# Altium schematic symbol library protect_tvs_esd_fuse.SchLib: 145 symbols
Pins are listed as number, name and electrical type; pins without a type are passive.

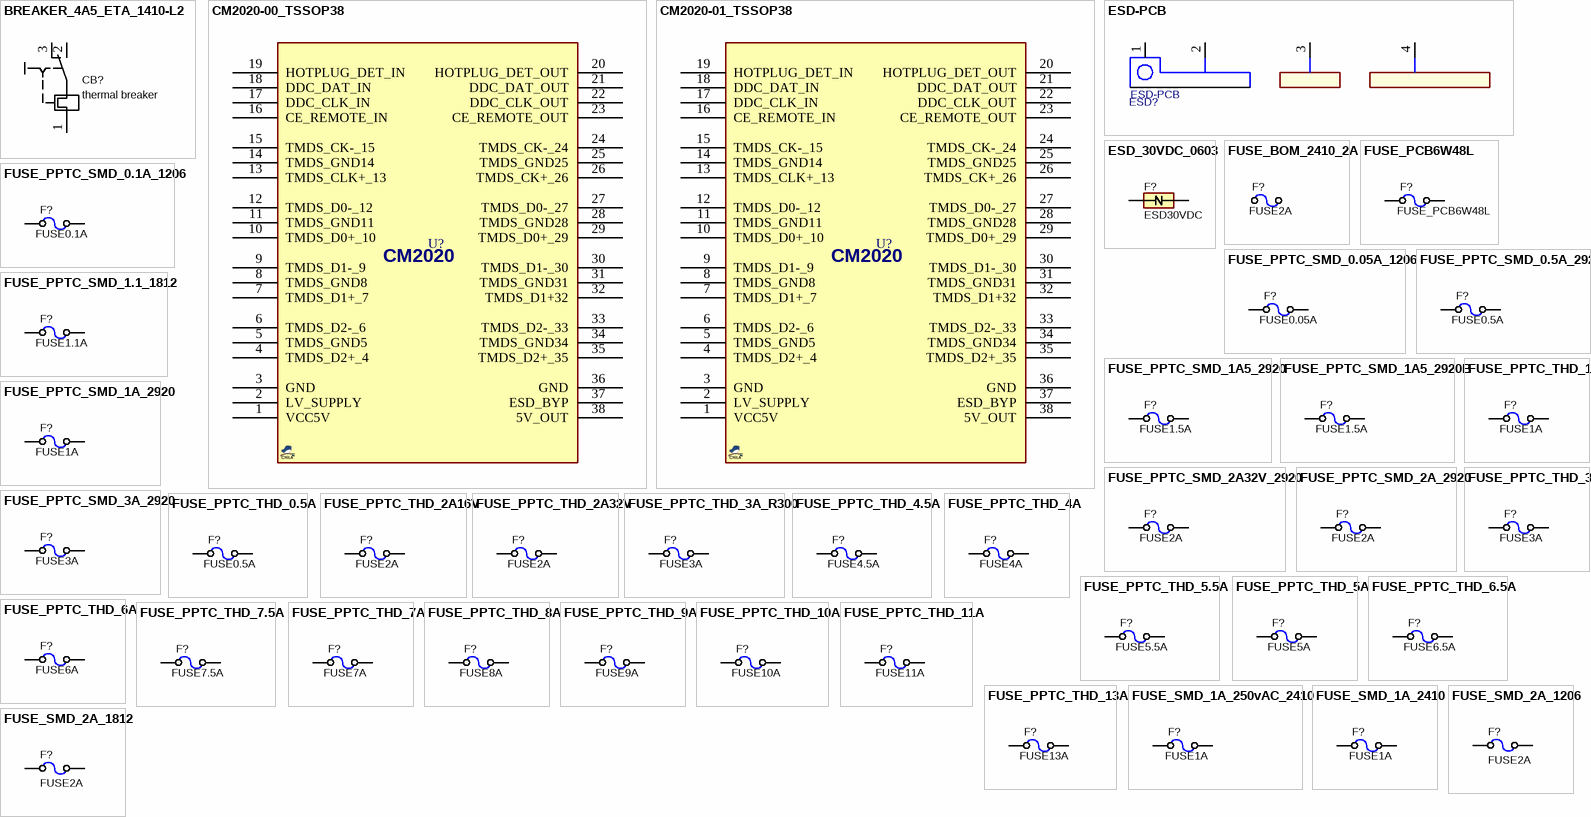
[diagram p0: symbols BREAKER_4A5_ETA_1410-L2 to FUSE_SMD_2A_1812]

## BREAKER_4A5_ETA_1410-L2
designator CB?, comment thermal breaker
Circuit breaker 4.5A PCB mount; MANF: E-T-A; MANF_P#: 1410-L210-L2F1-S02-4.5A; PARAM: 4.5A; 28VDC; 240VAC; VALUE: thermal breaker
footprint BREAKER_1410-L2 (E-T-A Thermal Overcurrent Circuit Breaker 1410-L2)
pins: 1, 2, 3

## CM2020-00_TSSOP38
designator U?, comment CM2020  (value not drawn)
TVS, ESD PROTECT, HDMI, 8kV; MANF: ON; MANF_P#: CM2020-00TR; PARAM2: 8kV ESD Protection; PARAM: -40~85°C; PRICE: 1.4$; VALUE: CM2020; PACKAGE: TSSOP-38
footprint SOG50_38 (38L TSSOP (MAXIM),38Lead, pitch: 0.5mm, 10x4.4x1.2mm)
pins: 1 VCC5V, 2 LV_SUPPLY, 3 GND, 4 TMDS_D2+_4, 5 TMDS_GND5, 6 TMDS_D2-_6, 7 TMDS_D1+_7, 8 TMDS_GND8, 9 TMDS_D1-_9, 10 TMDS_D0+_10, 11 TMDS_GND11, 12 TMDS_D0-_12, 13 TMDS_CLK+_13, 14 TMDS_GND14, 15 TMDS_CK-_15, 16 CE_REMOTE_IN, 17 DDC_CLK_IN, 18 DDC_DAT_IN, 19 HOTPLUG_DET_IN, 20 HOTPLUG_DET_OUT, 21 DDC_DAT_OUT, 22 DDC_CLK_OUT, 23 CE_REMOTE_OUT, 24 TMDS_CK-_24, 25 TMDS_GND25, 26 TMDS_CK+_26, 27 TMDS_D0-_27, 28 TMDS_GND28, 29 TMDS_D0+_29, 30 TMDS_D1-_30, 31 TMDS_GND31, 32 TMDS_D1+32, 33 TMDS_D2-_33, 34 TMDS_GND34, 35 TMDS_D2+_35, 36 GND, 37 ESD_BYP, 38 5V_OUT

## CM2020-01_TSSOP38
designator U?, comment CM2020  (value not drawn)
TVS, ESD PROTECT, HDMI, ±8kV; MANF: ON; MANF_P#: CM2020-01TR; PARAM2: ±8kV ESD Protection; PARAM: -40~85°C; PRICE: 1.4$; VALUE: CM2020; PACKAGE: TSSOP-38
footprint SOG50_38 (38L TSSOP (MAXIM),38Lead, pitch: 0.5mm, 10x4.4x1.2mm)
pins: 1 VCC5V, 2 LV_SUPPLY, 3 GND, 4 TMDS_D2+_4, 5 TMDS_GND5, 6 TMDS_D2-_6, 7 TMDS_D1+_7, 8 TMDS_GND8, 9 TMDS_D1-_9, 10 TMDS_D0+_10, 11 TMDS_GND11, 12 TMDS_D0-_12, 13 TMDS_CLK+_13, 14 TMDS_GND14, 15 TMDS_CK-_15, 16 CE_REMOTE_IN, 17 DDC_CLK_IN, 18 DDC_DAT_IN, 19 HOTPLUG_DET_IN, 20 HOTPLUG_DET_OUT, 21 DDC_DAT_OUT, 22 DDC_CLK_OUT, 23 CE_REMOTE_OUT, 24 TMDS_CK-_24, 25 TMDS_GND25, 26 TMDS_CK+_26, 27 TMDS_D0-_27, 28 TMDS_GND28, 29 TMDS_D0+_29, 30 TMDS_D1-_30, 31 TMDS_GND31, 32 TMDS_D1+32, 33 TMDS_D2-_33, 34 TMDS_GND34, 35 TMDS_D2+_35, 36 GND, 37 ESD_BYP, 38 5V_OUT

## ESD-PCB
designator ESD?
ESD, PCB; ASSEMBLY: DNP; VALUE: ESD-PCB
footprint ESD3X125
pins: 1, 2, 3, 4

## ESD_30VDC_0603
designator F?, comment ESD30VDC
ESD Suppressor 30VDC 0603 SMD; MANF: Cooper Bussmann; MANF_P#: 603ESDA2-TR2; PARAM2: WORK30V; PARAM: CLAMP60V; VALUE: ESD30VDC; PACKAGE: 0603
footprint ESD0603 (Chip ESD suppressor, Body 1.6x0.8mm, 0603)
pins: 1, 2

## FUSE_BOM_2410_2A
designator F?, comment FUSE2A
Fuse, Cermaic Nano; PARAM: 2A; 250VDC; fast acting; MANF: Reomax; MANF_P#: JFC2410-1200FS; PARAM2: 0.036Ohm DC Cold Resistance; PRICE: 260toman@Javan; PACKAGE: 2410; VALUE: FUSE2A
footprint FUSE_BOM (Fuse only for BOM)

## FUSE_PCB6W48L
designator F?  (net tie, no BOM)
PCB Fuse, 0.15mm wide, accordion shape, 48mm length, fuse time depends on substrate and current; MANF: Chilaboard; PRICE: 260toman@Javan; PACKAGE: 2410; VALUE: FUSE_PCB6W48L
footprint FUSE_PCB6W48L (PCB Fuse, 0.15mm wide, accordion shape, 48mm length, fuse time depends on substrate and current)
pins: 1, 2

## FUSE_PPTC_SMD_0.1A_1206
designator F?, comment FUSE0.1A
Fuse, PPTC, 0.1A, 60v, 1.6Ohm, 1206; PARAM: 0.1A, 0.25A Itrip, 100A max, -40~85oC; MANF_P#: JK-nSMD010/60V; PARAM2: 60VDC, 1.6Ohm; DESC: Resettable Fuse; PRICE: 0.03$; PACKAGE: 1206; VALUE: FUSE0.1A
footprint F1206 (FUSE, 1206, 3.2x1.6mm)
pins: 1, 2

## FUSE_PPTC_SMD_0.05A_1206
designator F?, comment FUSE0.05A
Fuse, PPTC, 0.05A, 60v, 1.6Ohm, 1206; PARAM: 0.1A, 0.25A Itrip, 100A max, -40~85oC; MANF_P#: JK-nSMD005/60V; PARAM2: 60VDC, 1.6Ohm; DESC: Resettable Fuse; PRICE: 0.03$; PACKAGE: 1206; VALUE: FUSE0.05A
footprint F1206 (FUSE, 1206, 3.2x1.6mm)
pins: 1, 2

## FUSE_PPTC_SMD_0.5A_2920
designator F?, comment FUSE0.5A
Fuse, PPTC, 0.5A, 60v, 1.4Ohm, 2920; PARAM: 0.5A, 1A Itrip, 100A max, -40~85oC; MANF: Bel Fuse; MANF_P#: 0ZCF0200AF2C; PARAM2: 60VDC, 1.4Ohm; DESC: Resettable Fuse; PRICE: 0.23$; PACKAGE: 2920; VALUE: FUSE0.5A
footprint F2920 (FUSE, 7.7x5.3mm)
pins: 1, 2

## FUSE_PPTC_SMD_1.1_1812
designator F?, comment FUSE1.1A
Fuse, PPTC, 1.1A, 24v, 0.18Ohm, 1812; PARAM: 1.1A, 2.2A Itrip, 20A max, -40~85oC; MANF: Bourns; MANF_P#: MF-MSMF110/24X-2; PARAM2: 24VDC, 0.18Ohm; DESC: Resettable Fuse; PRICE: https://lionelectronic.ir/products/1874-MF-MSMF110-24X-2; PACKAGE: 1812; VALUE: FUSE1.1A
footprint F1812 (FUSE, 4.50x3.20mm)
pins: 1, 2

## FUSE_PPTC_SMD_1A5_2920
designator F?, comment FUSE1.5A
Fuse, PPTC, 1.5A, 33v, 230mOhm, 2920; PARAM: 1.5A, 3A Itrip, 100A max, -40~85oC; MANF: Bel Fuse; MANF_P#: 0ZCF0200AF2C; PARAM2: 33VDC, 230mOhm; DESC: Resettable Fuse; PRICE: 0.23$; PACKAGE: 2920; VALUE: FUSE1.5A
footprint F2920 (FUSE, 7.7x5.3mm)
pins: 1, 2

## FUSE_PPTC_SMD_1A5_2920B
designator F?, comment FUSE1.5A
Fuse, PPTC, 1.5A, 33v, 230mOhm, 2920; PARAM: 1.5A, 3A Itrip, 40A max, -40~85oC; MANF: Bourns; MANF_P#: MF-SM150/33-2; PARAM2: 33VDC, 230mOhm; DESC: Resettable Fuse; PRICE: 0.5$; PACKAGE: 2920; VALUE: FUSE1.5A
footprint F2920 (FUSE, 7.7x5.3mm)
pins: 1, 2

## FUSE_PPTC_SMD_1A_2920
designator F?, comment FUSE1A
Fuse, PPTC, 1A, 60v, 410mOhm, 2920; PARAM: 1A, 2A Itrip, 100A max, -40~85oC; MANF: Bel Fuse; MANF_P#: 0ZCF0100AF2A; PARAM2: 60VDC, 410mOhm; DESC: Resettable Fuse; PRICE: 0.4$; PACKAGE: 2920; VALUE: FUSE1A
footprint F2920 (FUSE, 7.7x5.3mm)
pins: 1, 2

## FUSE_PPTC_SMD_2A32V_2920
designator F?, comment FUSE2A
Fuse, PPTC, THD; PARAM: 2A, 3.8A Itrip, 50A max, -40~85oC; MANF: BOURNS; MANF_P#: MF-RHT200/32; PARAM2: 32VDC, 110mOhm; DESC: Resettable Fuse; PRICE: 0.23$; PACKAGE: 2920; VALUE: FUSE2A
footprint F2920 (FUSE, 7.7x5.3mm)
pins: 1, 2

## FUSE_PPTC_SMD_2A_2920
designator F?, comment FUSE2A
Fuse, PPTC, 2A, 24v, 120mOhm, 2920; PARAM: 2A, 4A Itrip, 100A max, -40~85oC; MANF: Bel Fuse; MANF_P#: 0ZCF0200AF2C; PARAM2: 24VDC, 120mOhm; DESC: Resettable Fuse; PRICE: 0.23$; PACKAGE: 2920; VALUE: FUSE2A
footprint F2920 (FUSE, 7.7x5.3mm)
pins: 1, 2

## FUSE_PPTC_SMD_3A_2920
designator F?, comment FUSE3A
Fuse, PPTC, 3A, 24v, 48mOhm, 2920; PARAM: 3A, 5.2A Itrip, 100A max, -40~85oC; MANF: Bel Fuse; MANF_P#: 0ZCF0300BF2C; PARAM2: 24VDC, 48mOhm; DESC: Resettable Fuse; PRICE: 0.47$; PACKAGE: 2920; VALUE: FUSE3A
footprint F2920 (FUSE, 7.7x5.3mm)
pins: 1, 2

## FUSE_PPTC_THD_0.5A
designator F?, comment FUSE0.5A
Fuse, PPTC; PARAM: 0.5A, 0.9A Itrip, 40A max, -40~125°C; MANF: Bel Fuse; MANF_P#: MF-RHT050; PARAM2: 30VDC, 0.5Ohm; DESC: Resettable Fuse; PRICE: 0.23$; PACKAGE: 2920; VALUE: FUSE0.5A
footprint FPTC_RHT050 (Fuse PTC, MF-RHT050)
pins: 1, 2

## FUSE_PPTC_THD_1A
designator F?, comment FUSE1A
Fuse, PPTC; PARAM: 1A, 1.8A Itrip, 40A max, -40~125°C; MANF: Bel Fuse; MANF_P#: MF-RHT100; PARAM2: 30VDC, 0.2Ohm; DESC: Resettable Fuse; PRICE: 0.23$; PACKAGE: 2920; VALUE: FUSE1A
footprint FPTC_RHT100 (Fuse PTC, MF-RHT100)
pins: 1, 2

## FUSE_PPTC_THD_2A16V
designator F?, comment FUSE2A
Fuse, PPTC; PARAM: 2A, 3.8A Itrip, 100A max, -40~125°C; MANF: Bel Fuse; MANF_P#: MF-RHT200; PARAM2: 16VDC, 45mOhm; DESC: Resettable Fuse; PRICE: 0.23$; PACKAGE: 2920; VALUE: FUSE2A
footprint FPTC_RHT200 (Fuse PTC, MF-RHT200)
pins: 1, 2

## FUSE_PPTC_THD_2A32V
designator F?, comment FUSE2A
Fuse, PPTC; PARAM: 2A, 3.8A Itrip, 50A max, -40~125°C; MANF: Bel Fuse; MANF_P#: MF-RHT200/32; PARAM2: 32VDC, 45mOhm; DESC: Resettable Fuse; PRICE: 0.23$; PACKAGE: 2920; VALUE: FUSE2A
footprint FPTC_RHT200 (Fuse PTC, MF-RHT200)
pins: 1, 2

## FUSE_PPTC_THD_3A
designator F?, comment FUSE3A
Fuse, PPTC; PARAM: 3A, 6A Itrip, 100A max, -40~125°C; MANF: Bel Fuse; MANF_P#: MF-RHT300; PARAM2: 16VDC, 33mOhm; DESC: Resettable Fuse; PRICE: 0.23$; PACKAGE: 2920; VALUE: FUSE3A
footprint FPTC_RHT300 (Fuse PTC, MF-RHT300)
pins: 1, 2

## FUSE_PPTC_THD_3A_R300
designator F?, comment FUSE3A
Fuse, PPTC; PARAM: 3A, 6A Itrip, 40A max, -40~125°C; MANF: Bel Fuse; MANF_P#: MF-R300; PARAM2: 30VDC, 50mOhm; DESC: Resettable Fuse; PRICE: 0.23$; PACKAGE: 2920; VALUE: FUSE3A
footprint FPTC_R300 (Fuse PTC, MF-R300, 12mm width)
pins: 1, 2

## FUSE_PPTC_THD_4.5A
designator F?, comment FUSE4.5A
Fuse, PPTC; PARAM: 4.5A, 7.8A Itrip, 100A max, -40~125°C; MANF: Bel Fuse; MANF_P#: MF-RHT450; PARAM2: 16VDC, 22mOhm; DESC: Resettable Fuse; PRICE: 0.23$; PACKAGE: 2920; VALUE: FUSE4.5A
footprint FPTC_RHT450 (Fuse PTC, MF-RHT450)
pins: 1, 2

## FUSE_PPTC_THD_4A
designator F?, comment FUSE4A
Fuse, PPTC; PARAM: 4A, 7.5A Itrip, 100A max, -40~125°C; MANF: Bel Fuse; MANF_P#: MF-RHT400; PARAM2: 16VDC, 24mOhm; DESC: Resettable Fuse; PRICE: 0.23$; PACKAGE: 2920; VALUE: FUSE4A
footprint FPTC_RHT400 (Fuse PTC, MF-RHT400)
pins: 1, 2

## FUSE_PPTC_THD_5.5A
designator F?, comment FUSE5.5A
Fuse, PPTC; PARAM: 5.5A, 10A Itrip, 100A max, -40~125°C; MANF: Bel Fuse; MANF_P#: MF-RHT550; PARAM2: 16VDC, 15mOhm; DESC: Resettable Fuse; PRICE: 0.23$; PACKAGE: 2920; VALUE: FUSE5.5A
footprint FPTC_RHT550 (Fuse PTC, MF-RHT550)
pins: 1, 2

## FUSE_PPTC_THD_5A
designator F?, comment FUSE5A
Fuse, PPTC; PARAM: 5A, 9A Itrip, 100A max, -40~125°C; MANF: Bel Fuse; MANF_P#: MF-RHT500; PARAM2: 16VDC, 17mOhm; DESC: Resettable Fuse; PRICE: 0.23$; PACKAGE: 2920; VALUE: FUSE5A
footprint FPTC_RHT500 (Fuse PTC, MF-RHT500)
pins: 1, 2

## FUSE_PPTC_THD_6.5A
designator F?, comment FUSE6.5A
Fuse, PPTC; PARAM: 6.5A, 12A Itrip, 100A max, -40~125°C; MANF: Bel Fuse; MANF_P#: MF-RHT650; PARAM2: 16VDC, 11mOhm; DESC: Resettable Fuse; PRICE: 0.23$; PACKAGE: 2920; VALUE: FUSE6.5A
footprint FPTC_RHT650 (Fuse PTC, MF-RHT650)
pins: 1, 2

## FUSE_PPTC_THD_6A
designator F?, comment FUSE6A
Fuse, PPTC; PARAM: 6A, 10.8A Itrip, 100A max, -40~125°C; MANF: Bel Fuse; MANF_P#: MF-RHT600; PARAM2: 16VDC, 13mOhm; DESC: Resettable Fuse; PRICE: 0.23$; PACKAGE: 2920; VALUE: FUSE6A
footprint FPTC_RHT600 (Fuse PTC, MF-RHT600)
pins: 1, 2

## FUSE_PPTC_THD_7.5A
designator F?, comment FUSE7.5A
Fuse, PPTC; PARAM: 7.5A, 13.1A Itrip, 100A max, -40~125°C; MANF: Bel Fuse; MANF_P#: MF-RHT750; PARAM2: 16VDC, 10mOhm; DESC: Resettable Fuse; PRICE: 0.23$; PACKAGE: 2920; VALUE: FUSE7.5A
footprint FPTC_RHT750 (Fuse PTC, MF-RHT750)
pins: 1, 2

## FUSE_PPTC_THD_7A
designator F?, comment FUSE7A
Fuse, PPTC; PARAM: 7A, 13A Itrip, 100A max, -40~125°C; MANF: Bel Fuse; MANF_P#: MF-RHT700; PARAM2: 16VDC, 10mOhm; DESC: Resettable Fuse; PRICE: 0.23$; PACKAGE: 2920; VALUE: FUSE7A
footprint FPTC_RHT700 (Fuse PTC, MF-RHT700)
pins: 1, 2

## FUSE_PPTC_THD_8A
designator F?, comment FUSE8A
Fuse, PPTC; PARAM: 8A, 15A Itrip, 100A max, -40~125°C; MANF: Bel Fuse; MANF_P#: MF-RHT800; PARAM2: 16VDC, 8mOhm; DESC: Resettable Fuse; PRICE: 0.23$; PACKAGE: 2920; VALUE: FUSE8A
footprint FPTC_RHT800 (Fuse PTC, MF-RHT800)
pins: 1, 2

## FUSE_PPTC_THD_9A
designator F?, comment FUSE9A
Fuse, PPTC; PARAM: 9A, 16.5A Itrip, 100A max, -40~125°C; MANF: Bel Fuse; MANF_P#: MF-RHT900; PARAM2: 16VDC, 8mOhm; DESC: Resettable Fuse; PRICE: 0.23$; PACKAGE: 2920; VALUE: FUSE9A
footprint FPTC_RHT900 (Fuse PTC, MF-RHT900)
pins: 1, 2

## FUSE_PPTC_THD_10A
designator F?, comment FUSE10A
Fuse, PPTC; PARAM: 10A, 18.5A Itrip, 100A max, -40~125°C; MANF: Bel Fuse; MANF_P#: MF-RHT1000; PARAM2: 16VDC, 6mOhm; DESC: Resettable Fuse; PRICE: 0.23$; PACKAGE: 2920; VALUE: FUSE10A
footprint FPTC_RHT1000 (Fuse PTC, MF-RHT1000)
pins: 1, 2

## FUSE_PPTC_THD_11A
designator F?, comment FUSE11A
Fuse, PPTC; PARAM: 11A, 20A Itrip, 100A max, -40~125°C; MANF: Bel Fuse; MANF_P#: MF-RHT1100; PARAM2: 16VDC, 6mOhm; DESC: Resettable Fuse; PRICE: 0.23$; PACKAGE: 2920; VALUE: FUSE11A
footprint FPTC_RHT1100 (Fuse PTC, MF-RHT1100)
pins: 1, 2

## FUSE_PPTC_THD_13A
designator F?, comment FUSE13A
Fuse, PPTC; PARAM: 13A, 24A Itrip, 100A max, -40~125°C; MANF: Bel Fuse; MANF_P#: MF-RHT1300; PARAM2: 16VDC, 4mOhm; DESC: Resettable Fuse; PRICE: 0.23$; PACKAGE: 2920; VALUE: FUSE13A
footprint FPTC_RHT1300 (Fuse PTC, MF-RHT1300)
pins: 1, 2

## FUSE_SMD_1A_250vAC_2410
designator F?, comment FUSE1A
Fuse, SMD; PARAM: 1A; 250vAC; fast acting; MANF: Bourns; MANF_P#: SF-2410SP100W-2; PARAM2: 0.08 Ohm DC Cold Resistance; PRICE: -; PACKAGE: 2410; VALUE: FUSE1A
footprint F2410 (FUSE, 6x2.5mm)
pins: 1, 2

## FUSE_SMD_1A_2410
designator F?, comment FUSE1A
Fuse, SMD; PARAM: 1A; 125VDC; fast acting; MANF: Reomax; MANF_P#: SFE1100; PARAM2: 0.25 Ohm DC Cold Resistance; PRICE: 260toman@Javan; PACKAGE: 2410; VALUE: FUSE1A
footprint F2410 (FUSE, 6x2.5mm)
pins: 1, 2

## FUSE_SMD_2A_1206
designator F?, comment FUSE2A
Fuse, SMD; PARAM: 2A. Fast; MANF_P#: MANF_PART#; PARAM2: 63v; MANF: MANF; PACKAGE: 1812; VALUE: FUSE2A
footprint F1206 (FUSE, 1206, 3.2x1.6mm)
pins: 1, 2

## FUSE_SMD_2A_1812
designator F?, comment FUSE2A
Fuse, SMD; PARAM: 2A; MANF_P#: MANF_PART#; MANF: MANF; PARAM2: PARAM2; PACKAGE: 1812; VALUE: FUSE2A
footprint F1812 (FUSE, 4.50x3.20mm)
pins: 1, 2

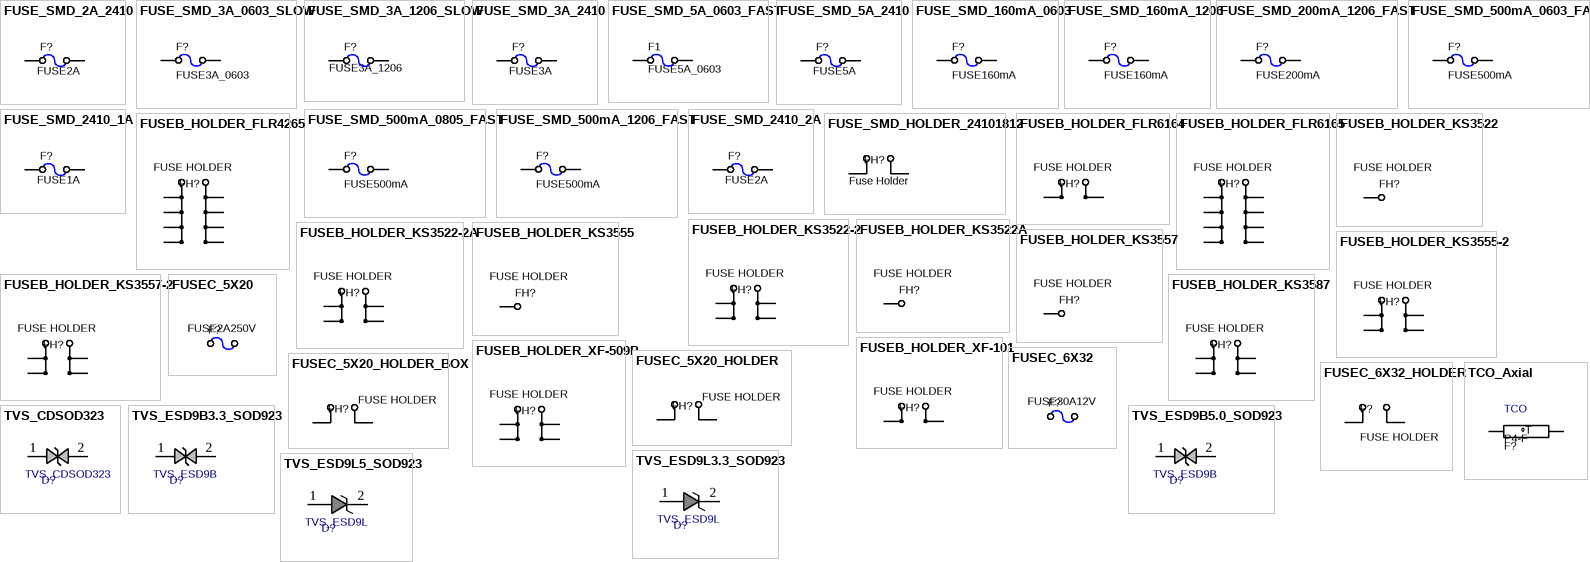
[diagram p1: symbols FUSE_SMD_2A_2410 to TVS_ESD9L5_SOD923]

## FUSE_SMD_2A_2410
designator F?, comment FUSE2A
Fuse, SMD; PARAM: 2A; 125VDC; fast acting; MANF: Reomax; MANF_P#: SFE1200; PARAM2: 0.25 Ohm DC Cold Resistance; PRICE: 260toman@Javan; PACKAGE: 2410; VALUE: FUSE2A
footprint F2410 (FUSE, 6x2.5mm)
pins: 1, 2

## FUSE_SMD_3A_0603_SLOW
designator F?, comment FUSE3A_0603
Fuse, SMD; PARAM: 3A; 32VDC; Slow Blow; MANF: Bourns; MANF_P#: SF-0603SP300-2; PARAM2: 0.018Ohm; PRICE: 0.8$; PACKAGE: 0603; VALUE: FUSE3A_0603
footprint F0603 (Footprint not found)
pins: 1, 2

## FUSE_SMD_3A_1206_SLOW
designator F?, comment FUSE3A_1206
Fuse, SMD; PARAM: 3A; 32VDC; Slow Blow; MANF: Bourns; MANF_P#: SF-1206SP300-2; PARAM2: 0.027Ohm; PRICE: 0.9$; PACKAGE: 1206; VALUE: FUSE3A_1206
footprint F1206 (FUSE, 1206, 3.2x1.6mm)
pins: 1, 2

## FUSE_SMD_3A_2410
designator F?, comment FUSE3A
Fuse, SMD; PARAM: 3A; 125VDC; fast acting; MANF: Reomax; MANF_P#: SFE1300; PARAM2: 0.25 Ohm DC Cold Resistance; PRICE: 260toman@Javan; PACKAGE: 2410; VALUE: FUSE3A
footprint F2410 (FUSE, 6x2.5mm)
pins: 1, 2

## FUSE_SMD_5A_0603_FAST
designator F1, comment FUSE5A_0603
Fuse, SMD; PARAM: 5A; 32VDC; Fast Blow; MANF: VISHAY; MANF_P#: MFU0603FF05000P100; PARAM2: 0.013Ohm; PRICE: 100: $0.19; PACKAGE: 0603; VALUE: FUSE5A_0603
footprint F0603 (Footprint not found)
pins: 1, 2

## FUSE_SMD_5A_2410
designator F?, comment FUSE5A
Fuse, SMD; PARAM: 5A; 125VDC; fast acting; MANF: Reomax; MANF_P#: SFE1500; PARAM2: 0.25 Ohm DC Cold Resistance; PRICE: 260toman@Javan; PACKAGE: 2410; VALUE: FUSE5A
footprint F2410 (FUSE, 6x2.5mm)
pins: 1, 2

## FUSE_SMD_160mA_0603
designator F?, comment FUSE160mA
Fuse, SMD; PARAM: 160mA; 63VDC; slow-blow; MANF: Holly Fuse; MANF_P#: 06T-0160L; PARAM2: PARAM2; PACKAGE: 0603; VALUE: FUSE160mA
footprint F0603 (Footprint not found)
pins: 1, 2

## FUSE_SMD_160mA_1206
designator F?, comment FUSE160mA
Fuse, SMD; PARAM: 160mA; 63VDC; slow-blow; MANF: Holly Fuse; MANF_P#: 12T-0160L; PARAM2: PARAM2; PACKAGE: 1206; VALUE: FUSE160mA
footprint F1206 (FUSE, 1206, 3.2x1.6mm)
pins: 1, 2

## FUSE_SMD_200mA_1206_FAST
designator F?, comment FUSE200mA
Fuse, SMD; PARAM: 200mA; very fast; MANF: Littelfuse; PARAM2: 125VDC; MANF_P#: 0466.200NRHF; PACKAGE: 1206; VALUE: FUSE200mA
footprint F1206 (FUSE, 1206, 3.2x1.6mm)
pins: 1, 2

## FUSE_SMD_500mA_0603_FAST
designator F?, comment FUSE500mA
Fuse, SMD; PARAM: 500mA; 32VDC; fast acting; MANF: AVX Corporation; MANF_P#: F0603E0R50FSTR; PARAM2: 0.25 Ohm DC Cold Resistance; PACKAGE: 0603; VALUE: FUSE500mA
footprint F0603 (Footprint not found)
pins: 1, 2

## FUSE_SMD_500mA_0805_FAST
designator F?, comment FUSE500mA
Fuse, SMD; PARAM: 500mA; 32VDC; fast acting; MANF_P#: MANF_PART#; PARAM2: 0.25 Ohm DC Cold Resistance; MANF: MANF; PACKAGE: 0805; VALUE: FUSE500mA
footprint F0805 (,0805, 2012, 200X130 FUSE)
pins: 1, 2

## FUSE_SMD_500mA_1206_FAST
designator F?, comment FUSE500mA
Fuse, SMD; PARAM: 200mA; very fast; MANF: Littelfuse; PARAM2: 63VDC; MANF_P#: CFS12V6TR50; PACKAGE: 1206; VALUE: FUSE500mA
footprint F1206 (FUSE, 1206, 3.2x1.6mm)
pins: 1, 2

## FUSE_SMD_2410_1A
designator F?, comment FUSE1A
Fuse, Cermaic Nano; PARAM: 1A; 250VDC; fast acting; MANF: Reomax; MANF_P#: JFC2410 1100FS 250V 1A; PARAM2: 0.036Ohm DC Cold Resistance; PRICE: 260toman@Javan; PACKAGE: 2410; VALUE: FUSE1A
footprint F2410C (FUSE, 6x2.5mm, Ceramic)
pins: 1, 2

## FUSE_SMD_2410_2A
designator F?, comment FUSE2A
Fuse, Cermaic Nano; PARAM: 2A; 125VDC; fast acting; MANF: Reomax; MANF_P#: JFC2410-1200FS; PARAM2: 0.036Ohm DC Cold Resistance; PRICE: 260toman@Javan; PACKAGE: 2410; VALUE: FUSE2A
footprint F2410 (FUSE, 6x2.5mm)
pins: 1, 2

## FUSE_SMD_HOLDER_24101812
designator FH?, comment Fuse Holder
Fuse SMD2410 Holder; PARAM: max. 10A; MANF: Littelfuse; MANF_P#: 01550900M; PARAM2: 125v; PRICE: 0.2$; PACKAGE: SMD,5.0x9.7mm; VALUE: Fuse Holder
footprint FH_24101812 (FUSE HOLDER for 2410 and 1812 sizes)
pins: 1, 2

## FUSEB_HOLDER_FLR4265
designator FH?, comment FUSE HOLDER
Automotive Car Blade Fuse Holder, ATO; PARAM: Standard Size; MANF: Littelfuse; MANF_P#: FLR 178.4265; VALUE: FUSE HOLDER
footprint FH_BLADE_FLR4265 (Car Blade Fuse Holder, Littelfuse FLR 178.4265)
pins: 1A, 1B, 1C, 1D, 2A, 2B, 2C, 2D

## FUSEB_HOLDER_FLR6164
designator FH?, comment FUSE HOLDER
Automotive Car Blade Fuse Holder, ATO; PARAM: Standard Size; MANF: Littelfuse; MANF_P#: FLR 178.6164; VALUE: FUSE HOLDER
footprint FH_BLADE_FLR6164 (Car Blade Fuse Holder, Littelfuse FLR 178.6164)
pins: 1, 2

## FUSEB_HOLDER_FLR6165
designator FH?, comment FUSE HOLDER
Automotive Car Blade Fuse Holder, ATO; PARAM: Standard Size; MANF: Littelfuse; MANF_P#: FLR 178.6165; VALUE: FUSE HOLDER
footprint FH_BLADE_FLR6165 (Car Blade Fuse Holder, Littelfuse FLR 178.6165)
pins: 1A, 1B, 1C, 1D, 2A, 2B, 2C, 2D

## FUSEB_HOLDER_KS3522
designator FH?, comment FUSE HOLDER
Automotive Car Blade Fuse Holder, ATO; PARAM: Standard Size; MANF: Keystone; MANF_P#: 3522; VALUE: FUSE HOLDER
footprint FH_BLADE_KS3522 (Car Blade Fuse Holder, Keystone 3522)
pins: 1A

## FUSEB_HOLDER_KS3522-2
designator FH?, comment FUSE HOLDER
Automotive Car Blade Fuse Holder, ATO; PARAM: Standard Size; MANF: Keystone; MANF_P#: 3522-2, XFCN XF-507P; VALUE: FUSE HOLDER
footprint FH_BLADE_KS35222 (Car Blade Fuse Holder, Keystone 3522-2, XFCN XF-507P)
pins: 1, 2, 3, 4

## FUSEB_HOLDER_KS3522-2A
designator FH?, comment FUSE HOLDER
Automotive Car Blade Fuse Holder, ATO; PARAM: Standard Size; VALUE: FUSE HOLDER
footprint FH_BLADE_KS35222A (Car Blade Fuse Holder, a  part similar to Keystone 3522-2)
pins: 1, 2, 3, 4

## FUSEB_HOLDER_KS3522A
designator FH?, comment FUSE HOLDER
Automotive Car Blade Fuse Holder, ATO; PARAM: Standard Size; VALUE: FUSE HOLDER
footprint FH_BLADE_KS3522A (Car Blade Fuse Holder, a  part similar to Keystone 3522)
pins: 1A

## FUSEB_HOLDER_KS3555
designator FH?, comment FUSE HOLDER
Automotive Car Blade Fuse Holder, Maxi; PARAM: Maxi Size; MANF: Keystone; MANF_P#: 3555; VALUE: FUSE HOLDER
footprint FH_BLADE_MAXI_KS3555 (Car Blade Fuse Holder, Keystone 3555)
pins: 1A

## FUSEB_HOLDER_KS3555-2
designator FH?, comment FUSE HOLDER
Automotive Car Blade Fuse Holder, MAXI; PARAM: Maxi Size; MANF: Keystone; MANF_P#: 3555-2; VALUE: FUSE HOLDER
footprint FH_BLADE_MAXI_KS35552 (Car Blade Fuse Holder, Keystone 3555-2, MAXI size)
pins: 1, 2, 3, 4

## FUSEB_HOLDER_KS3557
designator FH?, comment FUSE HOLDER
Automotive Car Blade Fuse Holder, ATO; PARAM: Standard Size; MANF: Keystone; MANF_P#: 3557; VALUE: FUSE HOLDER
footprint FH_BLADE_KS3557 (Car Blade Fuse Holder, Keystone 3557)
pins: 1A

## FUSEB_HOLDER_KS3557-2
designator FH?, comment FUSE HOLDER
Automotive Car Blade Fuse Holder, ATO; PARAM: Standard Size; MANF: Keystone; MANF_P#: 3557-2, XF-508P; VALUE: FUSE HOLDER
footprint FH_BLADE_KS35572 (Car Blade Fuse Holder, Keystone 3557-2, XF-508P)
pins: 1, 2, 3, 4

## FUSEB_HOLDER_KS3587
designator FH?, comment FUSE HOLDER
Automotive Car Blade Fuse Holder, ATO; PARAM: Standard Size; MANF: Keystone; MANF_P#: 3587; PACKAGE: SMD; VALUE: FUSE HOLDER
footprint FH_BLADE_KS3587 (Car Blade Fuse Holder, Keystone 3587)
pins: 1, 2, 3, 4

## FUSEB_HOLDER_XF-101
designator FH?, comment FUSE HOLDER
Automotive Car Blade Fuse Holder, ATO; PARAM: Standard Size; MANF: XFCN; MANF_P#: XFCN XF-509P; VALUE: FUSE HOLDER
footprint FH_BLADE_XF101 (Car Blade Fuse Holder, XFCN XF-101)
pins: 1, 4

## FUSEB_HOLDER_XF-509P
designator FH?, comment FUSE HOLDER
Automotive Car Blade Fuse Holder, ATO; PARAM: Standard Size; MANF: XFCN; MANF_P#: XFCN XF-509P; VALUE: FUSE HOLDER
footprint FH_BLADE_XF509P (Car Blade Fuse Holder, XFCN XF-509P)
pins: 1, 2, 3, 4

## FUSEC_5X20
designator F?, comment FUSE2A250V
Fuse Cylindrical 5X20; PARAM: 2A; MANF_P#: FUSE5X20mm_2A250v; PARAM2: 250V; MANF: MANF; VALUE: FUSE2A250V
footprint FUSE_BOM (Fuse only for BOM)

## FUSEC_5X20_HOLDER
designator FH?, comment FUSE HOLDER
Fuse Cylindrical 5X20 Holder; PARAM: 2A; MANF_P#: FUSEC_5X20_HOLDER; MANF: MANF; PARAM2: PARAM2; PACKAGE: 5X20; VALUE: FUSE HOLDER
footprint FH_5X20MM_4PIN (PCB Fuse Holder 5x20mm 4 PIN)
pins: 1, 2

## FUSEC_5X20_HOLDER_BOX
designator FH?, comment FUSE HOLDER
Fuse Cylindrical 5X20 Holder; PARAM: 2A; MANF_P#: FUSEC_5X20_HOLDER; MANF: MANF; PARAM2: PARAM2; PACKAGE: 5X20; VALUE: FUSE HOLDER
footprint FH_5X20MM (PCB Fuse Holder 5x20mm 2 PIN, pitch: 15.0mm  24x9mm)
pins: 1, 2

## FUSEC_6X32
designator F?, comment FUSE30A12V
Fuse Cylindrical 6X32; PARAM: 30A; MANF_P#: FUSE6X32mm_30A125v; PARAM2: 125v; MANF: MANF; VALUE: FUSE30A12V
footprint FUSE_BOM (Fuse only for BOM)

## FUSEC_6X32_HOLDER
designator F?, comment FUSE HOLDER
Fuse Cylindrical 6X32 Holder; PARAM: 30A; MANF_P#: FUSEC_6X32_HOLDER; PARAM2: 125VAC; MANF: MANF; PACKAGE: 6X32; VALUE: FUSE HOLDER
footprint FH_6X32MM_4PIN (PCB Fuse Holder 6x32mm 2 PIN, pitch: 15.0mm  24x9mm)
pins: 1, 2

## TCO_Axial
designator F?, comment MANF_P#: P4-F  (hidden comment: TCO)
Thermal cutoff axial 2 Amp 130 deg C; MANF: Aupo; PARAM: 130°C; 2.0A; 250Vac; VALUE: TCO
footprint AUPO_P-4F_BEND1 (Aupo P-4F TCO for positioning on IC legs)
footprint AUPO_P-4F_BEND2 (Aupo P-4F TCO for positioning on IC legs)
footprint AUPO_P-4F_BEND3 (Aupo P-4F TCO for positioning on IC legs)
footprint AUPO_P-4F_BEND4 (Aupo P-4F TCO for positioning on IC legs)
footprint AUPO_P-4F_BEND5 (Aupo P-4F TCO for positioning on IC legs)
footprint AUPO_P-4F_BEND6 (Aupo P-4F TCO for positioning on IC legs)
footprint AUPO_P-4F_BEND6M (Aupo P-4F TCO for positioning on IC legs)
footprint AUPO_P-4F_BEND7 (Aupo P-4F TCO for positioning on IC legs)
footprint AUPO_P-4F_BEND8 (Aupo P-4F TCO for positioning on IC legs)
footprint AUPO_P-4F_BEND8T (Aupo P-4F TCO for positioning on top of FETs)
footprint AUPO_P-4F_BEND8S (Aupo P-4F TCO for positioning beside FETs)
footprint AUPO_P-4F_BEND6SP (Aupo P-4F TCO for positioning on IC legs)
pins: 1, 2
text: T

## TVS_CDSOD323
designator D?
TVS, ESD PROTECT, Bidirectional; MANF_P#: CDSOD323-T12C; MANF: Bourns; PARAM2: 13.3VB, 12VR; PRICE: 0.7$; PACKAGE: SOD323; VALUE: TVS_CDSOD323
footprint D0805 (DIODE0805, SOD323 (PHILIPS), SC-76 (JEITA), DL-35)
pins: 1, 2

## TVS_ESD9B3.3_SOD923
designator D?, comment TVS_ESD9B
TVS, ESD PROTECT, Bidirectional; MANF_P#: ESD9B3.3ST5G; MANF: ON; PARAM: 3.3VRWM; PACKAGE: SOD923; VALUE: TVS_ESD9B
footprint D_SOD923 (SOD-923 2-Leads, Body 0.60x.8mm)
pins: 1, 2

## TVS_ESD9B5.0_SOD923
designator D?, comment TVS_ESD9B
TVS, ESD PROTECT, Bidirectional; MANF_P#: ESD9B5.0ST5G; MANF: ON; PARAM: 5VRWM; PACKAGE: SOD923; VALUE: TVS_ESD9B
footprint D_SOD923 (SOD-923 2-Leads, Body 0.60x.8mm)
pins: 1, 2

## TVS_ESD9L3.3_SOD923
designator D?, comment TVS_ESD9L
TVS, ESD PROTECT,; MANF_P#: ESD9L3.3ST5G; MANF: ON; PARAM: 3.3VRWM; PACKAGE: SOD923; VALUE: TVS_ESD9L
footprint D_SOD923 (SOD-923 2-Leads, Body 0.60x.8mm)
pins: 1, 2

## TVS_ESD9L5_SOD923
designator D?, comment TVS_ESD9L
TVS, ESD PROTECT,; MANF_P#: ESD9L5.0ST5G; MANF: ON; PARAM: 5VRWM; PACKAGE: SOD923; VALUE: TVS_ESD9L
footprint D_SOD923 (SOD-923 2-Leads, Body 0.60x.8mm)
pins: 1, 2

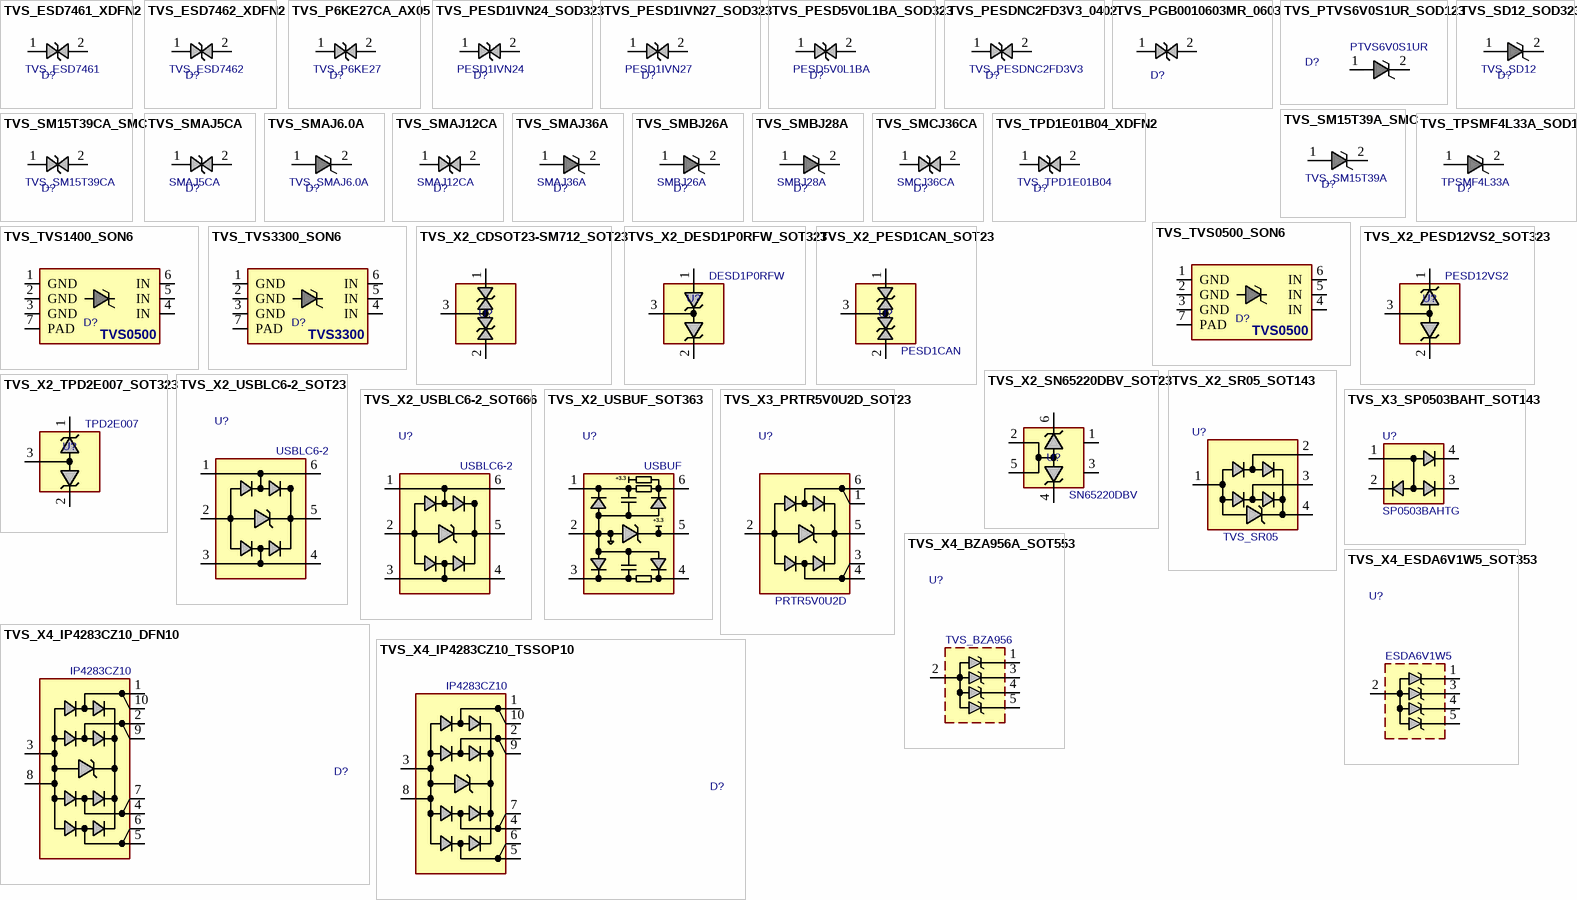
[diagram p2: symbols TVS_ESD7461_XDFN2 to TVS_X4_IP4283CZ10_TSSOP10]

## TVS_ESD7461_XDFN2
designator D?, comment TVS_ESD7461
TVS, ESD PROTECT, Bidirectional; MANF_P#: ESD7461N2T5G; MANF: ON; PARAM: 16.5VB; PRICE: 0.5$; PACKAGE: XDFN-2; VALUE: TVS_ESD7461
footprint ESD_XDFN2 (CHIP ESD Suppressor XDFN-2 X2DFN-2, 1X0.6mm)
pins: 1, 2

## TVS_ESD7462_XDFN2
designator D?, comment TVS_ESD7462
TVS, ESD PROTECT, Bidirectional; MANF_P#: SZESD7462N2T5G; MANF: ON; PARAM: 16.5VB; PRICE: 0.5$; PACKAGE: XDFN-2; VALUE: TVS_ESD7462
footprint ESD_XDFN2 (CHIP ESD Suppressor XDFN-2 X2DFN-2, 1X0.6mm)
pins: 1, 2

## TVS_P6KE27CA_AX05
designator D?, comment TVS_P6KE27
TVS, ESD PROTECT, Bidirectional; MANF_P#: P6KE27CA; MANF: ST, LittleFuse; PARAM2: 25.7~28.4VBr, 23VRM, 48.3VCLAMP; VALUE: TVS_P6KE27; PACKAGE: AX05
footprint D_AX05_DO15 (Footprint not found)
pins: 1, 2

## TVS_PESD1IVN24_SOD323
designator D?, comment PESD1IVN24
TVS, ESD PROTECT,; MANF_P#: PESD1IVN24-AX; MANF: NXP; PARAM: 24VRWM; PACKAGE: SOD323; VALUE: PESD1IVN24
footprint D_SOD323 (DIODE0805, SOD-323, SC-76, DL-35, 0805 similar size)
pins: 1, 2

## TVS_PESD1IVN27_SOD323
designator D?, comment PESD1IVN27
TVS, ESD PROTECT,; MANF_P#: PESD1IVN27-AX; MANF: NXP; PARAM: 27VRWM; PACKAGE: SOD323; VALUE: PESD1IVN27
footprint D_SOD323 (DIODE0805, SOD-323, SC-76, DL-35, 0805 similar size)
pins: 1, 2

## TVS_PESD5V0L1BA_SOD323
designator D?, comment PESD5V0L1BA
TVS, ESD PROTECT,; MANF: NXP; PARAM: 5VRWM; MANF_P#: PESD5V0L1BA; PACKAGE: SOD-323; VALUE: PESD5V0L1BA
footprint D_SOD323 (DIODE0805, SOD-323, SC-76, DL-35, 0805 similar size)
pins: 1, 2

## TVS_PESDNC2FD3V3_0402
designator D?, comment TVS_PESDNC2FD3V3
TVS, ESD PROTECT, Bidirectional; MANF_P#: PESDNC2FD3V3BS; PARAM2: 3.3vb, 10.5vr; MANF: -; PRICE: 0.7$; PACKAGE: 0402; VALUE: TVS_PESDNC2FD3V3
footprint ESD0402 (CHIP ESD Suppressor, 1.0X0.5mm, 0402)
pins: 1, 2

## TVS_PGB0010603MR_0603
designator D?, comment TVS603  (value not drawn)
TVS, ESD PROTECT, 24VDC, Bidirectional; MANF_P#: PGB0010603MR; MANF: LittelFuse; VALUE: TVS603; PACKAGE: 0603
footprint D0603 (DIODE 0603, CDSU101A (Package SOD-523F))
pins: 1, 2

## TVS_PTVS6V0S1UR_SOD123
designator D?, comment PTVS6V0S1UR
TVS, ESD PROTECT,; MANF: NXP; MANF_P#: PTVS6V0S1UR; VALUE: PTVS6V0S1UR; PACKAGE: SOD123
footprint D_SOD123W (1206D, SOD123, miniMELF, DO-213AA, MLL34, 320X160D)
pins: 1, 2

## TVS_SD12_SOD323
designator D?, comment TVS_SD12
TVS, ESD PROTECT, 12VRWM, 30KV; MANF_P#: SD12-01FTG, SD12C-01FTG; MANF: Littelfuse; PARAM2: 12VRWM, 30KV; PRICE: 0.5$; VALUE: TVS_SD12; PACKAGE: SOD323
footprint D_SOD323 (DIODE0805, SOD-323, SC-76, DL-35, 0805 similar size)
pins: 1, 2

## TVS_SM15T39A_SMC
designator D?, comment TVS_SM15T39A
TVS, ESD PROTECT; MANF: ST; PARAM2: 33.7VRWM, 37VBR; PARAM: -55~150°C; MANF_P#: SM15T39A; PRICE: 0.9$; VALUE: TVS_SM15T39A; PACKAGE: SMC
footprint D_SMC (SMC, Molded Diode, 7.0x6.0mm)
pins: 1, 2

## TVS_SM15T39CA_SMC
designator D?, comment TVS_SM15T39CA
TVS, ESD PROTECT, Bidirectional; MANF: ST; PARAM2: 33.7VRWM, 37VBR; PARAM: -55~150°C; MANF_P#: SM15T39CA; PRICE: 0.9$; VALUE: TVS_SM15T39CA; PACKAGE: SMC
footprint D_SMC (SMC, Molded Diode, 7.0x6.0mm)
pins: 1, 2

## TVS_SMAJ5CA
designator D?, comment SMAJ5CA
TVS, ESD PROTECT, Bidirectional; MANF: Littelfuse; PARAM2: 5VR, 6.74VBR; PARAM: -65~150°C; MANF_P#: SMAJ5CA; PRICE: 0.5t@Paya; VALUE: SMAJ5CA; PACKAGE: SMA
footprint D_SMA (SMA Molded Diode, 2-Leads, Body 4.3x2.7mm)
pins: 1, 2

## TVS_SMAJ6.0A
designator D?
TVS, ESD PROTECT; PARAM2: 6VRWM, 10.3VBR; PARAM: 400W, -55~150°C; MANF_P#: SMAJ6.0A; MANF: -; PRICE: 0.9$; PACKAGE: SMA; VALUE: TVS_SMAJ6.0A
footprint D_SMA (SMA Molded Diode, 2-Leads, Body 4.3x2.7mm, SOD-128)
pins: 1, 2

## TVS_SMAJ12CA
designator D?, comment SMAJ12CA
TVS, ESD PROTECT, Bidirectional; MANF: Littelfuse; PARAM2: 12VR, 13.3VBR; PARAM: -65~150°C; MANF_P#: SMAJ12CA; PACKAGE: SMA; VALUE: SMAJ12CA
footprint D_SMA (SMA Molded Diode, 2-Leads, Body 4.3x2.7mm)
pins: 1, 2

## TVS_SMAJ36A
designator D?, comment SMAJ36A
TVS, ESD PROTECT; MANF_P#: SMAJ36A-13-F; PARAM2: 36VRWM, 44.2VBR; PARAM: 400W, -55~150°C; MANF: -; PRICE: 0.1$; PACKAGE: SMB; VALUE: SMAJ36A
footprint D_SMA (SMA Molded Diode, 2-Leads, Body 4.3x2.7mm, SOD-128)
pins: 1, 2

## TVS_SMBJ26A
designator D?, comment SMBJ26A
TVS, ESD PROTECT; PARAM2: 26VRWM, 28.9VBR; PARAM: 600W, -55~150°C; MANF_P#: SMBJ26A; MANF: -; PRICE: 0.9$; PACKAGE: SMB; VALUE: SMBJ26A
footprint D_SMB (SMB Molded Diode, 2-Leads, Body 4.3x3.5mm)
pins: 1, 2

## TVS_SMBJ28A
designator D?, comment SMBJ28A
TVS, ESD PROTECT; PARAM2: 28VRWM, 31.1VBR; PARAM: 600W, -55~150°C; MANF_P#: SMBJ28A; MANF: -; PRICE: 0.9$; PACKAGE: SMB; VALUE: SMBJ28A
footprint D_SMB (SMB Molded Diode, 2-Leads, Body 4.3x3.5mm)
pins: 1, 2

## TVS_SMCJ36CA
designator D?, comment SMCJ36CA
TVS, ESD PROTECT; PARAM2: 36VRWM, 44.2VBR; PARAM: 400W, -55~150°C; MANF_P#: SMCJ36CA; MANF: -; PRICE: 0.1$; PACKAGE: SMB; VALUE: SMCJ36CA
footprint D_SMC (SMC, Molded Diode, 7.0x6.0mm)
pins: 1, 2

## TVS_TPD1E01B04_XDFN2
designator D?, comment TVS_TPD1E01B04
TVS, ESD PROTECT, Bidirectional; MANF_P#: TPD1E01B04DPY; MANF: TI; PARAM: 6.4VB, 20Gbps, 0.2pF; PACKAGE: XDFN-2; VALUE: TVS_TPD1E01B04
footprint ESD_XDFN2 (CHIP ESD Suppressor XDFN-2 X2DFN-2, 1X0.6mm)
pins: 1, 2

## TVS_TPSMF4L33A_SOD123
designator D?, comment TPSMF4L33A
TVS, ESD PROTECT; MANF: Littelfuse; PARAM2: 33.7VRWM, 37VBR; PARAM: -55~150°C; MANF_P#: TPSMF4L33A; PRICE: 0.5$; VALUE: TPSMF4L33A; PACKAGE: SOD123
footprint D_SOD123W (PowerDI-123, SOD123, DO-213AA, 1206D)
pins: 1, 2

## TVS_TVS0500_SON6
designator D?, comment TVS0500  (value not drawn)
TVS, ESD PROTECT, 43A 5Vrwm; MANF_P#: TVS0500DRV; MANF: TI; PARAM2: 5Vrwm, 9.2Vclamp; PARAM: 19nA Vrwm, 35A 8/20us; PRICE: 0.6$; VALUE: TVS0500; PACKAGE: SON-6
footprint SON65_6T_2020 (DRV PWSON DFN6 Pitch: 0.65mm 2x2x1.1mm)
pins: 1 GND, 2 GND, 3 GND, 4 IN, 5 IN, 6 IN, 7 PAD

## TVS_TVS1400_SON6
designator D?, comment TVS1400  (value not drawn)
TVS, ESD PROTECT, 43A 5Vrwm; MANF_P#: TVS1400DRV; MANF: TI; PARAM2: 14Vrwm, 18.4Vclamp; PARAM: 19nA Vrwm, 35A 8/20us; PRICE: 0.6$; VALUE: TVS1400; PACKAGE: SON-6
footprint SON65_6T_2020 (DRV PWSON DFN6 Pitch: 0.65mm 2x2x1.1mm)
pins: 1 GND, 2 GND, 3 GND, 4 IN, 5 IN, 6 IN, 7 PAD
text: TVS0500

## TVS_TVS3300_SON6
designator D?, comment TVS3300  (value not drawn)
TVS, ESD PROTECT, 35A 33Vrwm; MANF_P#: TVS3300DRV; MANF: TI; PARAM2: 33Vrwm, 38Vclamp; PARAM: 19nA Vrwm, 35A 8/20us; PRICE: 0.6$; VALUE: TVS3300; PACKAGE: SON-6
footprint SON65_6T_2020 (DRV PWSON DFN6 Pitch: 0.65mm 2x2x1.1mm)
pins: 1 GND, 2 GND, 3 GND, 4 IN, 5 IN, 6 IN, 7 PAD

## TVS_X2_CDSOT23-SM712_SOT23
designator U?, comment CDSOT23-SM712  (value not drawn)
TVS, ESD PROTECT, 2CH, 400W/17A PP, 7.5VBR, ±8KV ESDmin; MANF: Bourns; PARAM: 400W/17A peak-pulse; MANF_P#: CDSOT23-SM712; PARAM2: 7.5VBR, ±8KV ESD min; PRICE: 1.6$; VALUE: CDSOT23-SM712; PACKAGE: SOT-23
footprint SOT23_3 (SOT-23, Micro3, MO-178, TO-236AB, MO-193C, SuperSOT3, SC-59, DSO190_3_300X150)
pins: 1 NC, 2 GND, 3 NC

## TVS_X2_DESD1P0RFW_SOT323
designator U?, comment DESD1P0RFW
TVS, ESD PROTECT, 2CH, 70VRWM, 0.2W; MANF_P#: DESD1P0RFWQ; MANF: DIODES; PARAM: 1.5pF, -65~150°C; PARAM2: 70VRWM, 0.2W; PRICE: 0.5$; VALUE: DESD1P0RFW; PACKAGE: SOT-323
footprint SOT323_3 (SOT323, SC-70/SC70-3L, MO-203(JEDEC))
pins: 1 IO1, 2 IO2, 3 GND

## TVS_X2_PESD1CAN_SOT23
designator U?, comment PESD1CAN
TVS, ESD PROTECT, 2CH, CAN bus ESD protection diode; MANF: NXP; MANF_P#: PESD1CAN; PACKAGE: SOT-23; VALUE: PESD1CAN
footprint SOT23_3 (SOT-23, Micro3, MO-178, TO-236AB, MO-193C, SuperSOT3, SC-59, DSO190_3_300X150)
pins: 1 NC, 2 GND, 3 NC

## TVS_X2_PESD12VS2_SOT323
designator U?, comment PESD12VS2
TVS, ESD PROTECT, 2CH, 15VBR, 0.2W; MANF_P#: PESD12VS2UQ,115; MANF: Nexperia; PARAM: 15VBR, -65~105oC; PRICE: 0.5$; VALUE: PESD12VS2; PACKAGE: SOT-323
footprint SOT323_3 (SOT323, SC-70/SC70-3L, MO-203(JEDEC))
pins: 1 IO1, 2 IO2, 3 GND

## TVS_X2_SN65220DBV_SOT23
designator U?, comment SN65220DBV
TVS, ESD PROTECT, 2CH; MANF: TI; MANF_P#: SN65220DBV; PACKAGE: SOT-23-6; VALUE: SN65220DBV
footprint SOT23_6 (SOT-23-6, MICRO6, SOT-26, SOT457, SuperSOT6, TSOP-6, HMC313, MO-178AB, MO-193AA, TSOT)
pins: 1 NC, 2 GND, 3 NC, 4 B, 5 GND, 6 A

## TVS_X2_SR05_SOT143
designator U?, comment TVS_SR05
TVS, ESD PROTECT, 2CH, 25A 5V 500W SOT-143; MANF_P#: SR05.TCT; MANF: SEMTECH CORP; VALUE: TVS_SR05; PACKAGE: SOT-143
footprint SOT143_4 (SC-74A , SOT143, TO-253A, LAT-3/MMM168, MW-4, 1.5X3mm, 1.9mm pitch)
pins: 1, 2, 3, 4

## TVS_X2_TPD2E007_SOT323
designator U?, comment TPD2E007
TVS, ESD PROTECT, 2CH, 14VBR, 0.2W; MANF_P#: TPD2E007DCKR; MANF: TI; PARAM: 14VBR, -40~85oC; PRICE: 0.6$; VALUE: TPD2E007; PACKAGE: SOT-323
footprint SOT323_3 (SOT323, SC-70/SC70-3L, DCK, MO-203, 2X1.25mm)
pins: 1 IO1, 2 IO2, 3 GND

## TVS_X2_USBLC6-2_SOT23
designator U?, comment USBLC6-2
TVS, ESD PROTECT, 3CH; MANF_P#: USBLC6-2SC6; MANF: ST; PACKAGE: SOT-23-6; VALUE: USBLC6-2
footprint SOT23_6 (SOT-23-6, MICRO6, SOT-26, SOT457, SuperSOT6, TSOP-6, HMC313, MO-178AB, MO-193AA, TSOT)
pins: 1, 2, 3, 4, 5, 6

## TVS_X2_USBLC6-2_SOT666
designator U?, comment USBLC6-2
TVS, ESD PROTECT, 3CH; MANF_P#: USBLC6-2P6; MANF: ST; VALUE: USBLC6-2; PACKAGE: SOT-666
footprint SOT563_6 (SOT-563, 6 LEAD, Body 1.2x1.6mm, Pitch 0.50mm, DSO50_6_160X120)
pins: 1, 2, 3, 4, 5, 6

## TVS_X2_USBUF_SOT363
designator U?, comment USBUF
TVS, ESD PROTECT, 3CH; MANF_P#: USBUF02W6, USBUF01W6; MANF: ST; VALUE: USBUF; PACKAGE: SOT-363
footprint SOT363_6 (SOT-363, SC-70-6, DCK, BFS483, SC-88, MO-203AB, 2X1.2mm)
pins: 1, 2, 3, 4, 5, 6
text: +3.3

## TVS_X3_PRTR5V0U2D_SOT23
designator U?, comment PRTR5V0U2D
TVS, ESD PROTECT, 3CH; MANF: NXP; MANF_P#: PRTR5V0U2D; PACKAGE: SOT-23-6; VALUE: PRTR5V0U2D
footprint SOT23_6 (SOT-23-6, MICRO6, SOT-26, SOT457, SuperSOT6, TSOP-6, HMC313, MO-178AB, MO-193AA, TSOT)
pins: 1, 2, 3, 4, 5, 6

## TVS_X3_SP0503BAHT_SOT143
designator U?, comment SP0503BAHTG
TVS, ESD PROTECT,  3CH; MANF: LITTELFUSE; DESC: DESCRIPTION; PARAM2: 200MW; PARAM: 12V; PRICE: 0.2918; MANF_P#: SP0503BAHTG; ASSEMBLY: ASSEMBLY; PACKAGE: SOT-143; VALUE: SP0503BAHTG
footprint SOT143_4 (SC-74A , SOT143, TO-253A, DSO190_4_300X150, LAT-3/MMM168, MW-4)
pins: 1 P1, 2 P2, 3 P3, 4 P4

## TVS_X4_BZA956A_SOT553
designator U?, comment TVS_BZA956
TVS, ESD PROTECT, 4CH, 5.6V SOT665; MANF_P#: BZA956A,115; MANF: NXP; PACKAGE: SOT-553; VALUE: TVS_BZA956
footprint SOT553_5 (SOT-553, 5 LEAD, Body 1.2x1.6mm, Pitch 0.50mm, DSO50_5_160X120)
pins: 1 C1, 2 GND, 3 C2, 4 C3, 5 C4

## TVS_X4_ESDA6V1W5_SOT353
designator U?, comment ESDA6V1W5
TVS, ESD PROTECT, 4CH, 6.1V SOT353; MANF: NXP; PARAM2: 6.1Vbr; MANF_P#: ESDA6V1W5; PACKAGE: SOT-353; VALUE: ESDA6V1W5
footprint SOT353_5 (SC-88A, SC70-5, TSSOP5, SOT-353, DCK (TI), SSOT-25, 0.65mm pitch 2X1.3mm, 0.65mm pitch)
pins: 1 C1, 2 GND, 3 C2, 4 C3, 5 C4

## TVS_X4_IP4283CZ10_DFN10
designator D?, comment IP4283CZ10
TVS, ESD PROTECT, 4CH; MANF: NXP; MANF_P#: IP4283CZ10-TBA; PACKAGE: DFN-10; VALUE: IP4283CZ10
footprint SON50_10_2510 (DQA, USON, uDFN-10, MO-229 (JEDEC), SLP2510P8  - 2.5x1.0x0.5mm)
pins: 1, 2, 3, 4, 5, 6, 7, 8, 9, 10

## TVS_X4_IP4283CZ10_TSSOP10
designator D?, comment IP4283CZ10
TVS, ESD PROTECT, 4CH; MANF: NXP; MANF_P#: IP4283CZ10-TT; PACKAGE: TSSOP-10; VALUE: IP4283CZ10
footprint SOG50_10 (MSSOP10, 3X3mm 0.5mm pitch, DGS, MSOP10, 10uSOP/usop10 (Dallas), MO-187BA(JEDEC))
pins: 1, 2, 3, 4, 5, 6, 7, 8, 9, 10

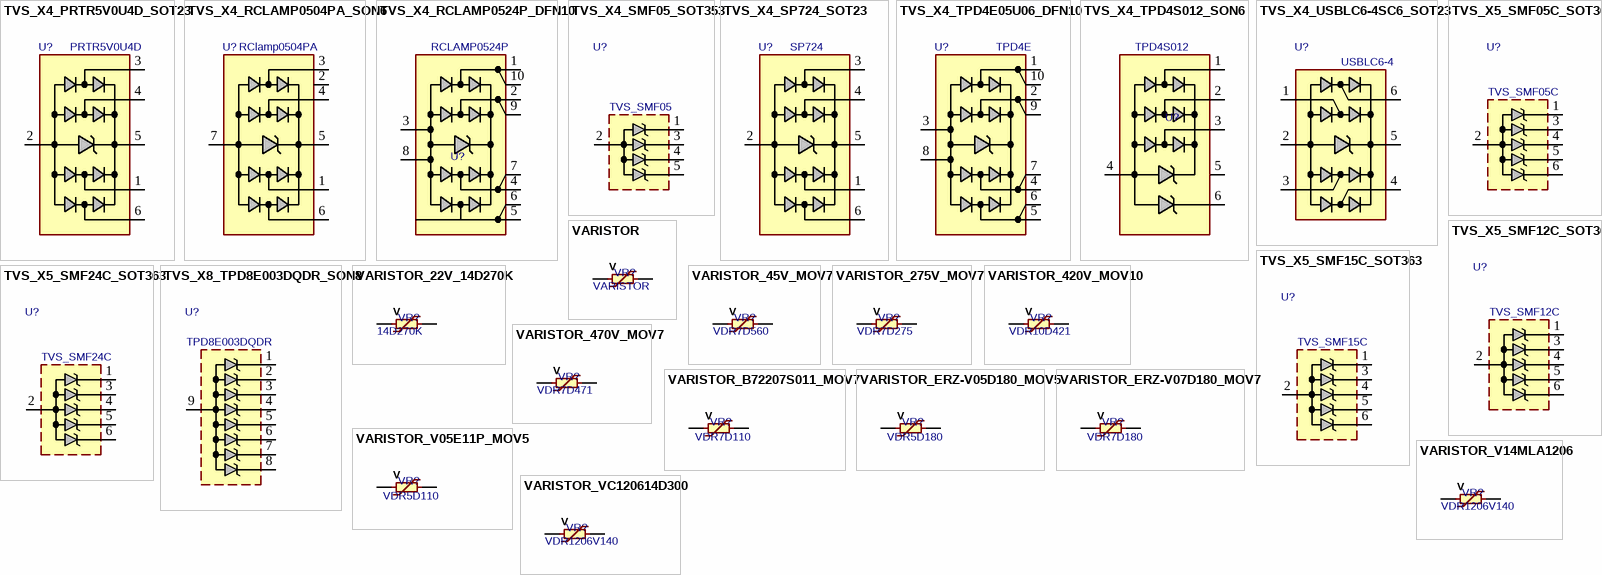
[diagram p3: symbols TVS_X4_PRTR5V0U4D_SOT23 to VARISTOR_VC120614D300]

## TVS_X4_PRTR5V0U4D_SOT23
designator U?, comment PRTR5V0U4D
TVS, ESD PROTECT, 4CH; MANF: NXP; MANF_P#: PRTR5V0U4D; PACKAGE: SOT-23-6; VALUE: PRTR5V0U4D
footprint SOT23_6 (SOT-23-6, MICRO6, SOT-26, SOT457, SuperSOT6, TSOP-6, HMC313, MO-178AB, MO-193AA, TSOT)
pins: 1, 2, 3, 4, 5, 6

## TVS_X4_RCLAMP0504PA_SON6
designator U?, comment RClamp0504PA
TVS, ESD PROTECT, 4CH; MANF: SEMTECH; MANF_P#: RClamp0504PA; PACKAGE: SON-6; VALUE: RClamp0504PA
footprint SON50_6T_1616 (SLP1616P6 DGN08   6-Lead DFN Pitch: 0.5mm 1.6x1.6x0.6mm with Thermal pad)
pins: 1, 2, 3, 4, 5, 6, 7 GND

## TVS_X4_RCLAMP0524P_DFN10
designator U?, comment RCLAMP0524P
TVS, ESD PROTECT, 4CH; MANF: SEMTECH; MANF_P#: RCLAMP0524P; PACKAGE: DFN-10; VALUE: RCLAMP0524P
footprint SON50_10_2510 (DQA, USON, uDFN-10, MO-229 (JEDEC), SLP2510P8  - 2.5x1.0x0.5mm)
pins: 1, 2, 3, 4, 5, 6, 7, 8 GND, 9, 10

## TVS_X4_SMF05_SOT353
designator U?, comment TVS_SMF05
TVS, ESD PROTECT, 4CH, 5VRWM, 15KV; MANF_P#: SMF05; MANF: Semtech; PARAM: 5VRWM, 15KV; VALUE: TVS_SMF05; PACKAGE: SOT-353
footprint SOT353_5 (SC-88A, SC70-5, SOT-353, DCK (TI), 0.65mm pitch 2X1.3mm body)
pins: 1, 2, 3, 4, 5

## TVS_X4_SP724_SOT23
designator U?, comment SP724
TVS, ESD PROTECT, 4CH; MANF: Littelfuse; MANF_P#: SP724; PACKAGE: SOT-23-6; VALUE: SP724
footprint SOT23_6 (SOT-23-6, MICRO6, SOT-26, SOT457, SuperSOT6, TSOP-6, HMC313, MO-178AB, MO-193AA, TSOT)
pins: 1, 2, 3, 4, 5, 6

## TVS_X4_TPD4E05U06_DFN10
designator U?, comment TPD4E
TVS, ESD PROTECT, 4CH,; MANF_P#: TPD4E05U06DQA; MANF: Texas Instruments; PARAM2: 6.5Vbr, 0.4pF, –40°~125°C; PARAM: ±12-kV ContactD, ±15-kVAirD; PRICE: 0.6$; PACKAGE: DFN-10; VALUE: TPD4E
footprint SON50_10_2510 (uDFN-10, MO-229 (JEDEC), SLP2510P8  - 2.5x1.0x0.5mm)
pins: 1, 2, 3, 4, 5, 6, 7, 8, 9, 10

## TVS_X4_TPD4S012_SON6
designator U?, comment TPD4S012
TVS, ESD PROTECT, 4CH, USB Interface; MANF_P#: TPD4S012DRY; MANF: TI; PACKAGE: SON-6; VALUE: TPD4S012
footprint SON50_6_1410 (DRY, ULLGA6_1.45X1_0.5MM, USON 6-PIN , UDFN, MicroPak-6)
pins: 1 D_P, 2 D_N, 3 ID, 4 GND (power), 5 NC, 6 VBUS (power)

## TVS_X4_USBLC6-4SC6_SOT23
designator U?, comment USBLC6-4
TVS, ESD PROTECT, 4CH; MANF_P#: USBLC6-4SC6; MANF: ST; PACKAGE: SOT-23-6; VALUE: USBLC6-4
footprint SOT23_6 (SOT-23-6, MICRO6, SOT-26, SOT457, SuperSOT6, TSOP-6, HMC313, MO-178AB, MO-193AA, TSOT)
pins: 1, 2, 3, 4, 5, 6

## TVS_X5_SMF05C_SOT363
designator U?, comment TVS_SMF05C
TVS, ESD PROTECT, 5CH, 5VRWM, 15KV; MANF_P#: SMF05C, SMF05CT1G; MANF: Semtech, ON; PARAM: 5VRWM, 15KV; VALUE: TVS_SMF05C; PACKAGE: SOT-363
footprint SOT363_6 (SOT-363, SC-70_6, BFS483, SC-88, MO-203AB, DSO65_6_200X130)
pins: 1, 2, 3, 4, 5, 6

## TVS_X5_SMF12C_SOT363
designator U?, comment TVS_SMF12C
TVS, ESD PROTECT, 5CH, 12VRWM, 15KV; MANF_P#: SMF12CT1G; MANF: ON; PARAM: 12VRWM, 15KV; VALUE: TVS_SMF12C; PACKAGE: SOT-363
footprint SOT363_6 (SOT-363, SC-70_6, BFS483, SC-88, MO-203AB, DSO65_6_200X130)
pins: 1, 2, 3, 4, 5, 6

## TVS_X5_SMF15C_SOT363
designator U?, comment TVS_SMF15C
TVS, ESD PROTECT, 5CH, 15VRWM, 15KV; MANF_P#: SMF15CT1G; MANF: ON; PARAM: 15VRWM, 15KV; VALUE: TVS_SMF15C; PACKAGE: SOT-363
footprint SOT363_6 (SOT-363, SC-70_6, BFS483, SC-88, MO-203AB, DSO65_6_200X130)
pins: 1, 2, 3, 4, 5, 6

## TVS_X5_SMF24C_SOT363
designator U?, comment TVS_SMF24C
TVS, ESD PROTECT, 5CH, 24VRWM, 15KV; MANF_P#: SMF24CT1G; MANF: ON; PARAM: 24VRWM, 15KV; VALUE: TVS_SMF24C; PACKAGE: SOT-363
footprint SOT363_6 (SOT-363, SC-70_6, BFS483, SC-88, MO-203AB, DSO65_6_200X130)
pins: 1, 2, 3, 4, 5, 6

## TVS_X8_TPD8E003DQDR_SON8
designator U?, comment TPD8E003DQDR
TVS, ESD PROTECT, 8CH, 12KV; MANF: TI; MANF_P#: TPD8E003DQDR; VALUE: TPD8E003DQDR; PACKAGE: SON-8
footprint SON40_8T_1714 (DFN, TDFN pitch:0.4mm 1.7X1.35X0.8mm, 1.6X1.4mm)
pins: 1, 2, 3, 4, 5, 6, 7, 8, 9

## VARISTOR
designator VR?
Varistor (Metal Oxiade Varistor); PARAM: V; MANF: MANF; PARAM2: PARAM2; MANF_P#: MANF_P#; VALUE: VARISTOR
footprint MOV_5D (R_VARISTOR, 5.0X6.4mm, pitch: 5.0mm,)
footprint MOV_7D (R_VARISTOR, 9.0X6.6mm, pitch: 5.0mm, 275VAC(RMS))
footprint MOV_10D (R_VARISTOR, 12.5X8.0mm, pitch: 7.5mm, 420V)
footprint MOV_20D (R_VARISTOR, 21.5X5.8mm, MOV-07DxxxK Metal Oxide Varistors (MOVs))
pins: 1, 2

## VARISTOR_22V_14D270K
designator VR?, comment 14D270K
Varistor 45V, (Voltage-Sensitive Resistor), MOV14; MANF: Bourns; PARAM2: 17VAC/22VDC, 53vClamp; MANF_P#: 14D270K; PRICE: 100t; PACKAGE: MOV7; VALUE: 14D270K
footprint MOV_14D (VDR, VARISTOR, 16.5X4.4, pitch: 7.6mm)
pins: 1, 2
text: V

## VARISTOR_45V_MOV7
designator VR?, comment VDR7D560
Varistor 45V, (Voltage-Sensitive Resistor), MOV7; MANF: Bourns; PARAM2: 35VAC/45VDC; MANF_P#: MOV-07D560K, ZOV-07D560K; PRICE: 100t; PACKAGE: MOV7; VALUE: VDR7D560
footprint MOV_7D (R_VARISTOR, 9.0X6.6mm, pitch: 5.0mm, 275VAC(RMS))
pins: 1, 2
text: V

## VARISTOR_275V_MOV7
designator VR?, comment VDR7D275
Varistor 275V, (Voltage-Sensitive Resistor), MOV7; MANF_P#: S07K275; PARAM: 420V; MANF: MANF; PARAM2: PARAM2; PACKAGE: MOV7; VALUE: VDR7D275
footprint MOV_7D (R_VARISTOR, 9.0X6.6mm, pitch: 5.0mm, 275VAC(RMS))
pins: 1, 2
text: V

## VARISTOR_420V_MOV10
designator VR?, comment VDR10D421
Varistor 420V, (Voltage-Sensitive Resistor), MOV10; MANF: MANF; PARAM2: PARAM2; PARAM: 420V; MANF_P#: VARISTOR420V; VALUE: VDR10D421; PACKAGE: MOV10
footprint MOV_10D (R_VARISTOR, 12.5X8.0mm, pitch: 7.5mm, 420V)
pins: 1, 2
text: V

## VARISTOR_470V_MOV7
designator VR?, comment VDR7D471
Varistor 470V, (Voltage-Sensitive Resistor), MOV7; MANF_P#: MANF_PART#; PARAM: 420V; MANF: MANF; PARAM2: PARAM2; VALUE: VDR7D471; PACKAGE: MOV7
footprint MOV_7D (R_VARISTOR, 9.0X6.6mm, pitch: 5.0mm, 275VAC(RMS))
pins: 1, 2
text: V

## VARISTOR_B72207S011_MOV7
designator VR?, comment VDR7D110
Varistor, 14VDC/11VAC, MOV7; MANF: EPCOS / TDK; PARAM2: 14VDC, 11VAC, 36VCLAMP; MANF_P#: B72207S0110K211; PARAM: 250A-ITM, -40~85oC; PRICE: 0.45$; VALUE: VDR7D110; PACKAGE: MOV7
footprint MOV_7D (VDR, VARISTOR, 9X5.6, pitch: 5.0mm, 275VAC(RMS))
pins: 1, 2
text: V

## VARISTOR_ERZ-V05D180_MOV5
designator VR?, comment VDR5D180
Varistor, 14VDC/11VAC, MOV5; MANF: Panasonic; PARAM2: 14VDC, 11VAC, 40VCLAMP; MANF_P#: ERZ-V05D180; PARAM: 250A-ITM, -40~85oC; PRICE: 0.35$; VALUE: VDR5D180; PACKAGE: MOV5
footprint MOV_5D (VDR, VARISTOR, 7X6.5, pitch: 5.0mm)
pins: 1, 2
text: V

## VARISTOR_ERZ-V07D180_MOV7
designator VR?, comment VDR7D180
Varistor, 14VDC/11VAC, MOV7; MANF: Panasonic; PARAM2: 14VDC, 11VAC, 36VCLAMP; MANF_P#: ERZ-V07D180; PARAM: 500A-ITM, -40~85oC; PRICE: 0.38$; VALUE: VDR7D180; PACKAGE: MOV7
footprint MOV_7D (VDR, VARISTOR, 9X5.6, pitch: 5.0mm, 275VAC(RMS))
pins: 1, 2
text: V

## VARISTOR_V05E11P_MOV5
designator VR?, comment VDR5D110
Varistor, 14VDC/11VAC, MOV5; MANF: Littelfuse; PARAM2: 14VDC, 11VAC, 36VCLAMP; MANF_P#: V05E11P; PARAM: 500A-ITM, -40~85oC; PRICE: 0.48$; VALUE: VDR5D110; PACKAGE: MOV5
footprint MOV_5D (VDR, VARISTOR, 7X6.5, pitch: 5.0mm)
pins: 1, 2
text: V

## VARISTOR_V14MLA1206
designator VR?, comment VDR1206V140
Varistor, 14VDC/10VAC, 1206; MANF: Littelfuse; PARAM2: 14VDC, 10VAC, 32VCLAMP; MANF_P#: V14MLA1206NH; PARAM: 150A-ITM, 0.4W; PRICE: 1.1$; VALUE: VDR1206V140; PACKAGE: 1206
footprint R1206 (CHIP RESISTOR 1/4 WATT, Body 3.2x1.6mm,1206, 3216)
pins: 1, 2
text: V

## VARISTOR_VC120614D300
designator VR?, comment VDR1206V140
Varistor, 14VDC/10VAC, 1206; MANF: AVX; PARAM2: 14VDC, 10VAC, 32VCLAMP; MANF_P#: VC120614D300RP; PARAM: 150A-ITM, 0.4W; PRICE: 0.38$; VALUE: VDR1206V140; PACKAGE: 1206
footprint R1206 (CHIP RESISTOR 1/4 WATT, Body 3.2x1.6mm,1206, 3216)
pins: 1, 2
text: V